# Altium footprint library Pololu G2 High-Power Motor Driver 24v21.PcbLib: 1 footprints
Each footprint in its own frame and in the unit in brackets; x right, y up, seen from the top. Pads: shape width x height; smd on the part's side, far side on the other; paste and mask are expansions set on the pad; w line width, h text height; cw(c..) or ccw(c..) is an arc to the next point about the centre after c.
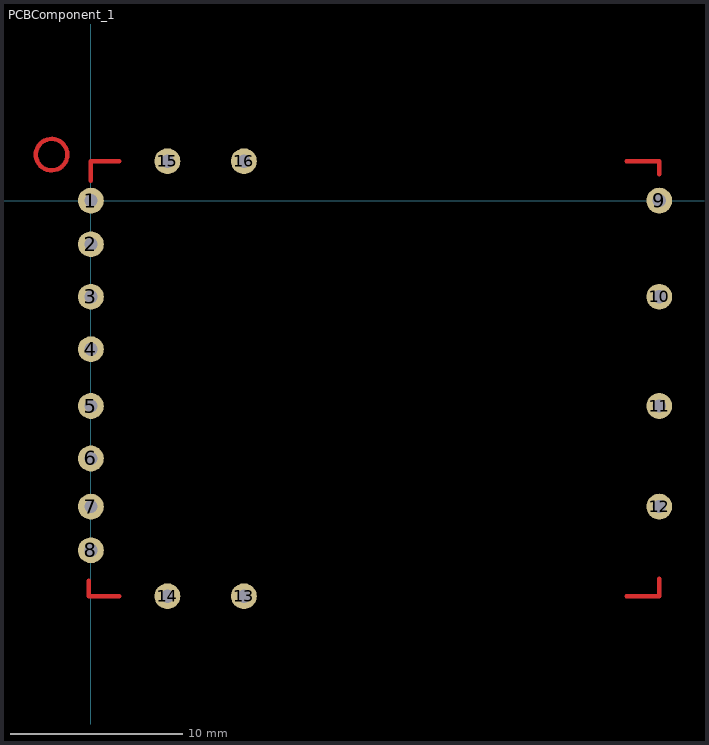
[diagram p0: the footprint, top view; thin cyan lines are the x and y axes]

## PCBComponent_1 [mm]
pads (16):
  round 1.5 hole 0.762: 1(0,0) 2(0,-2.54) 3(0,-5.588) 4(0,-8.636) 5(0,-11.938) 6(0,-14.986) 7(0,-17.78) 8(0,-20.32) 9(33.02,0) 10(33.02,-5.588) 11(33.02,-11.938) 12(33.02,-17.78) 13(8.89,-22.987) 14(4.445,-22.987) 15(4.445,2.286) 16(8.89,2.286)
Top Layer:
  circle w0.254: c-2.286,2.667 r0.916
  lines w0.254: -0.127,-22.098 -0.127,-22.987 1.651,-22.987 ; -0.127,0.127 0,0 ; 0,1.143 0,2.286 1.651,2.286 ; 31.115,-22.987 33.02,-22.987 33.02,-21.971 ; 31.115,2.286 33.02,2.286 33.02,1.524